# Altium footprint library AMS1117-Module.PcbLib: 1 footprints
Each footprint in its own frame and in the unit in brackets; x right, y up, seen from the top. Pads: shape width x height; smd on the part's side, far side on the other; paste and mask are expansions set on the pad; w line width, h text height; cw(c..) or ccw(c..) is an arc to the next point about the centre after c.
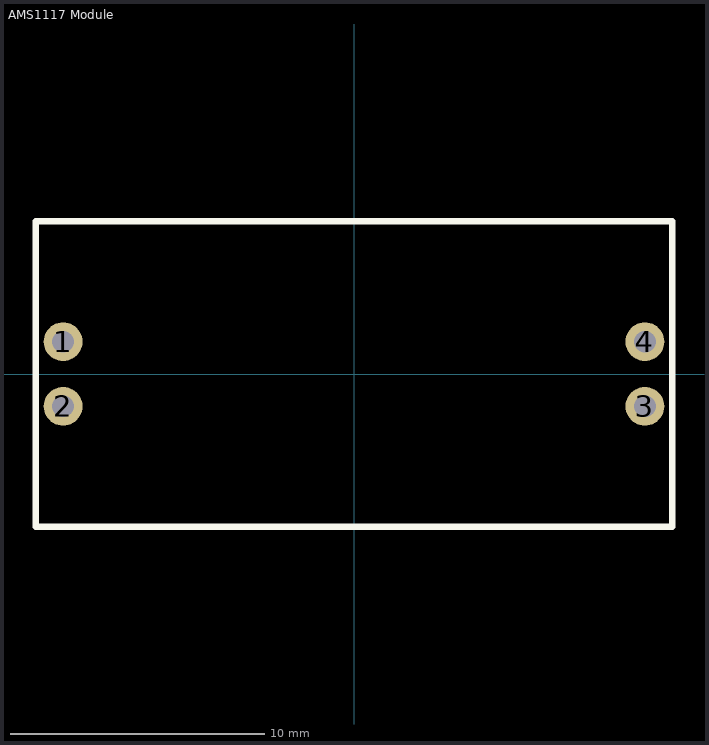
[diagram p0: the footprint, top view; thin cyan lines are the x and y axes]

## AMS1117 Module [mil]
pads (4):
  round 60 hole 33.46: 1(-450,50) 2(-450,-50) 3(450,-50) 4(450,50)
Top Overlay:
  lines w10: -492.13,-236.22 492.13,-236.22 492.13,236.22 -492.13,236.22 -492.13,-236.22